# Altium footprint library MCV 1.5 x-GF-3,5.PcbLib: 1 footprints
Each footprint in its own frame and in the unit in brackets; x right, y up, seen from the top. Pads: shape width x height; smd on the part's side, far side on the other; paste and mask are expansions set on the pad; w line width, h text height; cw(c..) or ccw(c..) is an arc to the next point about the centre after c.
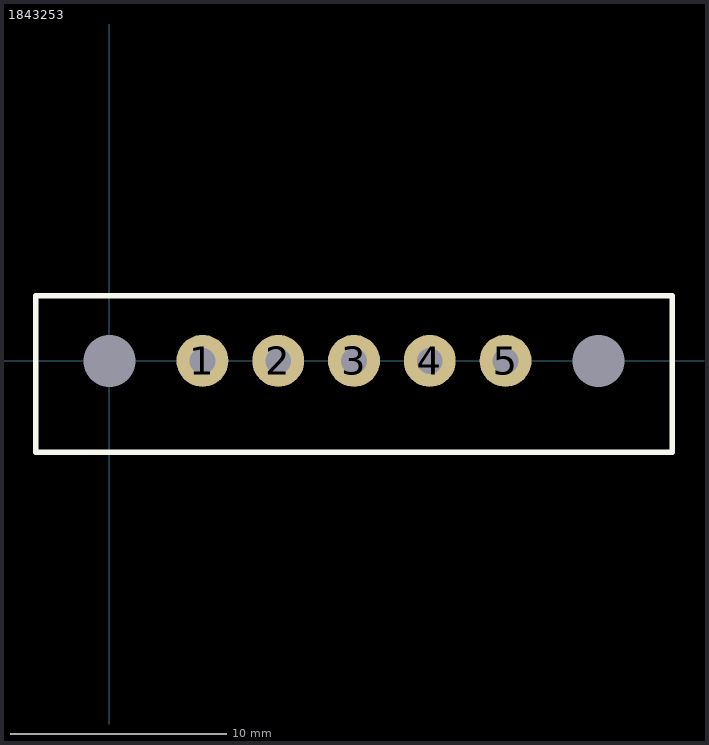
[diagram p0: the footprint, top view; thin cyan lines are the x and y axes]

## 1843253 [mm]
pads (7):
  round 2.4 hole 1.2: 1(4.3,0) 2(7.8,0) 3(11.3,0) 4(14.8,0) 5(18.3,0)
  round 2 hole 2.4: ""(0,0) ""(22.6,0)
Top Overlay:
  lines w0.254: -3.4,-4.216 26,-4.216 26,3 -3.4,3 -3.4,-4.216
3D body: height 20.6, standoff 4.5, extent -2.647,-4.69 25.253,6.41
3D body: height 9.2, standoff -3.4, extent -2.597,-4.242 25.203,3.008